# Altium integrated library CONNECTORS.IntLib: 4 symbols
Pins are listed as number, name and electrical type; pins without a type are passive.

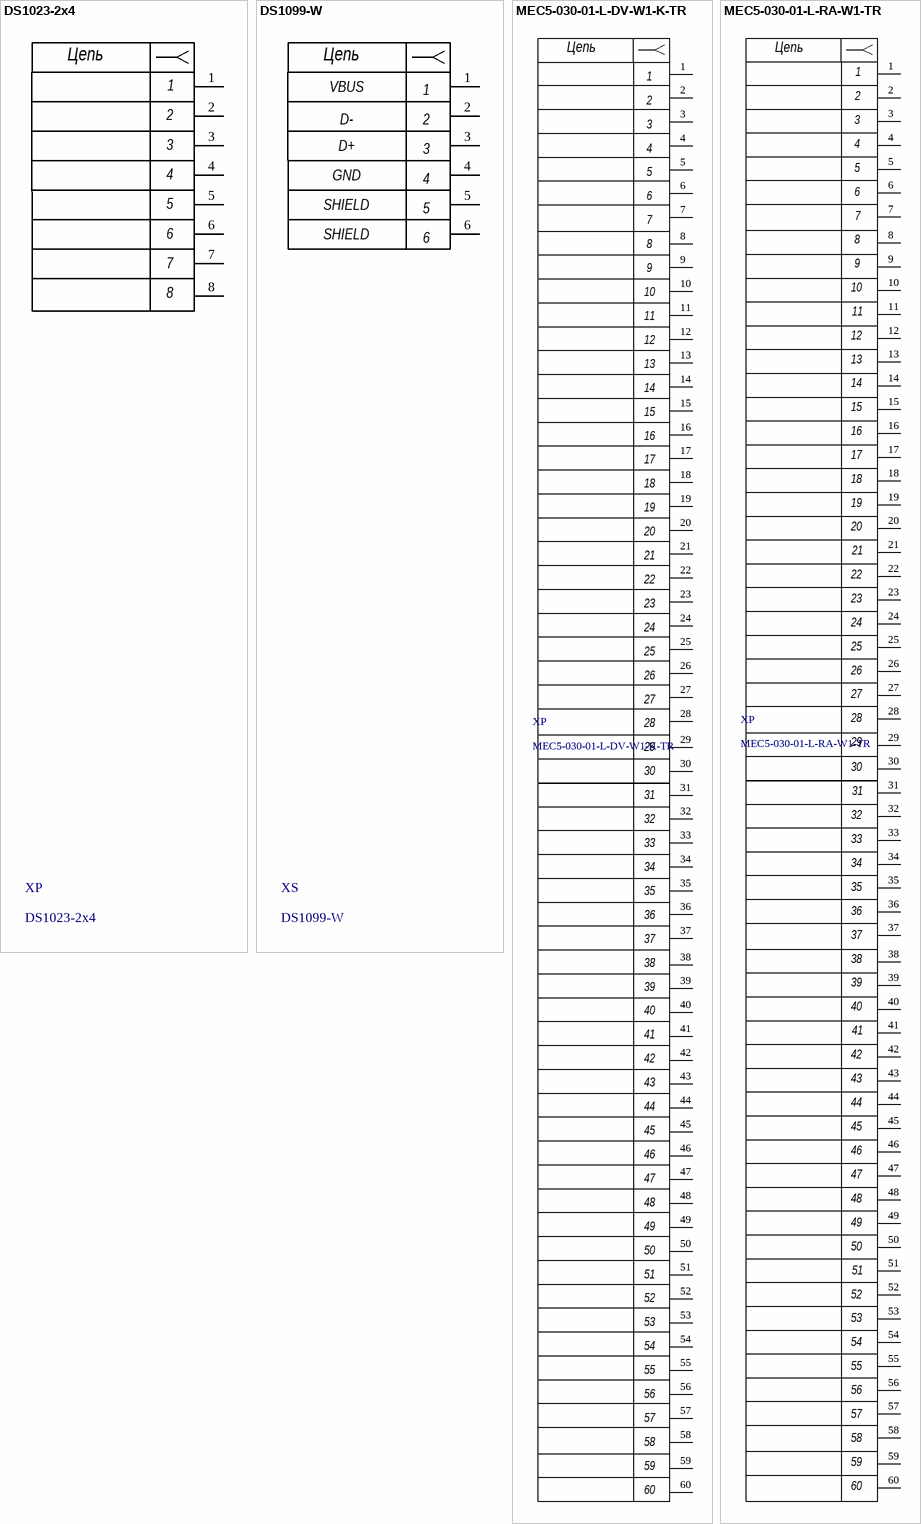
[diagram p0: symbols DS1023-2x4 to MEC5-030-01-L-RA-W1-TR]

## DS1023-2x4
designator XP
Разъем на плату штыревой гнездо двухрядное 8 контактов; Manufacturer: Connfly; Manufacturer Part Number: DS1023-2; Component Type: Разъём
footprint DS1023-2x4 (Разъем PBD на плату 8конт.)
pins: 1, 2, 3, 4, 5, 6, 7, 8
text: Цепь

## DS1099-W
designator XS
Разъем на плату USB2.0 тип B; Manufacturer: Connfly; Manufacturer Part Number: DS1099-W; Component Type: Разъём
footprint DS1099-W
pins: 1, 2, 3, 4, 5, 6
text: Цепь; VBUS; D-; D+; GND; SHIELD

## MEC5-030-01-L-DV-W1-K-TR
designator XP
Разъем на плату 60конт. прямой; Manufacturer: Samtec; Manufacturer Part Number: MEC5-030-01-L-DV-W1-K-TR; Component Type: Разъём
footprint SAMTEC_MEC5-030-01-X-DV-W1-K-X
pins: 1, 2, 3, 4, 5, 6, 7, 8, 9, 10, 11, 12, 13, 14, 15, 16, 17, 18, 19, 20, 21, 22, 23, 24, 25, 26, 27, 28, 29, 30, 31, 32, 33, 34, 35, 36, 37, 38, 39, 40, 41, 42, 43, 44, 45, 46, 47, 48, 49, 50, 51, 52, 53, 54, 55, 56, 57, 58, 59, 60
text: Цепь

## MEC5-030-01-L-RA-W1-TR
designator XP
Разъем на плату 60конт. угловой; Manufacturer: Samtec; Manufacturer Part Number: MEC5-030-01-L-RA-W1-TR; Component Type: Разъём
footprint SAMTEC_MEC5-030-01-X-RA-W1-XX
pins: 1, 2, 3, 4, 5, 6, 7, 8, 9, 10, 11, 12, 13, 14, 15, 16, 17, 18, 19, 20, 21, 22, 23, 24, 25, 26, 27, 28, 29, 30, 31, 32, 33, 34, 35, 36, 37, 38, 39, 40, 41, 42, 43, 44, 45, 46, 47, 48, 49, 50, 51, 52, 53, 54, 55, 56, 57, 58, 59, 60
text: Цепь